# Altium schematic symbol library EVQ-PUA02K.SchLib: 1 symbol
Pins are listed as number, name and electrical type; pins without a type are passive.

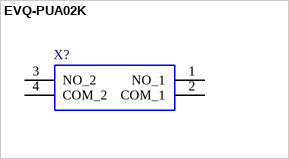
[diagram p0: symbol EVQ-PUA02K]

## EVQ-PUA02K
designator X?
Tactile Switches SIDE PUSH 2.2NF 4.7x3.2x1.65mm; Manufacturer_Name: Panasonic; Geometry.Height: 1.95mm; Mouser Part Number: 667-EVQ-PUA02K; Mouser Price/Stock: https://www.mouser.co.uk/ProductDetail/Panasonic/EVQ-PUA02K?qs=whhzBCqEXCvFsgipcL1tig%3D%3D; Manufacturer_Part_Number: EVQ-PUA02K; Datasheet Link: https://datasheet.datasheetarchive.com/originals/distributors/Datasheets-DGA6/577059.pdf
footprint EVQPUA02K
pins: 1 NO_1, 2 COM_1, 3 NO_2, 4 COM_2